# Altium schematic symbol library Dabs PCB.SCHLIB: 12 symbols
Pins are listed as number, name and electrical type; pins without a type are passive.

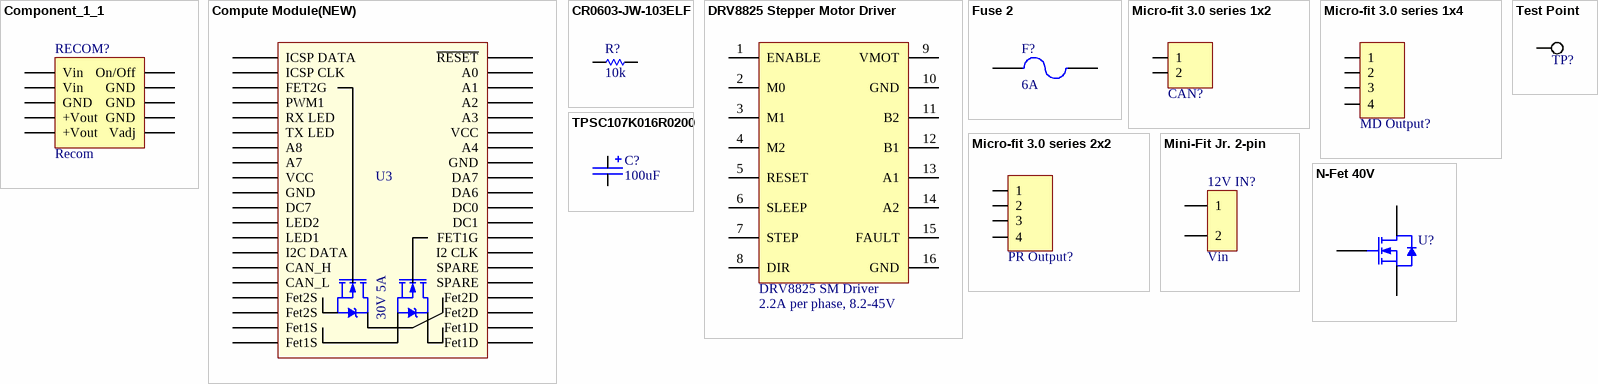
[diagram p0: symbols Component_1_1 to TPSC107K016R0200]

## Component_1_1
designator RECOM?, comment Recom
footprint R-78AAxx-1.0SMD Recom
pins: 1 Vin "ON/OFF", 2 Vin "ON/OFF", 3 GND "ON/OFF", 4 +Vout "ON/OFF", 5 +Vout "ON/OFF", 6 Vadj "ON/OFF", 7 GND "ON/OFF", 8 GND "ON/OFF", 9 GND "ON/OFF", 10 On/Off "ON/OFF"

## Compute Module(NEW)
designator U3  (value not drawn)
PrISUm Standard Compute Module - DIP40(2/24/17); Pinout Revision: 1.0; Doccumentation: TBD; Datasheet: TBD
footprint ComputeModule (Socket for compute module)
pins: 1 ~{RESET}, 2 A0, 3 A1, 4 A2, 5 A3, 6 VCC, 7 A4, 8 GND, 9 DA7, 10 DA6, 11 DC0, 12 DC1, 13 FET1G, 14 I2 CLK, 15 SPARE, 16 SPARE, 17 Fet2D, 18 Fet2D, 19 Fet1D, 20 Fet1D, 21 Fet1S, 22 Fet1S, 23 Fet2S, 24 Fet2S, 25 CAN_L, 26 CAN_H, 27 I2C DATA, 28 LED1, 29 LED2, 30 DC7, 31 GND, 32 VCC, 33 A7, 34 A8, 35 TX LED, 36 RX LED, 37 PWM1, 38 FET2G, 39 ICSP CLK, 40 ICSP DATA
text: 30V 5A

## CR0603-JW-103ELF
designator R?  value 10k  (hidden comment: CR0603-JW-103ELF)
0603 10kOhm resistor; ComponentLink1Description: Datasheet; ComponentLink1URL: http://www.bourns.com/data/global/pdfs/CHPREZTR.pdf
footprint 0603_B (0603 Style B SMT capacitor)
footprint 0603_A (0603 Style A SMT capacitor)
pins: 1, 2

## DRV8825 Stepper Motor Driver
designator U?, comment 2.2A per phase, 8.2-45V
footprint DRV8825 SM Driver
pins: 1 ENABLE "ON/OFF", 2 M0 "ON/OFF", 3 M1 "ON/OFF", 4 M2 "ON/OFF", 5 RESET "ON/OFF", 6 SLEEP "ON/OFF", 7 STEP "ON/OFF", 8 DIR "ON/OFF", 9 VMOT "ON/OFF", 10 GND "ON/OFF", 11 B2 "ON/OFF", 12 B1 "ON/OFF", 13 A1 "ON/OFF", 14 A2 "ON/OFF", 15 FAULT "ON/OFF", 16 GND "ON/OFF"
text: DRV8825 SM Driver

## Fuse 2
designator F?, comment 6A
Fuse; Published: 8-Jun-2000; LatestRevisionDate: 17-Jul-2002; LatestRevisionNote: Re-released for DXP Platform.; PackageReference: PIN-W2/E2.8; Publisher: Altium Limited; PackageDescription: Thru-Hole; 2 Leads
footprint Blade Fuse
pins: 1, 2

## Micro-fit 3.0 series 1x2
designator CAN?, comment Micro-fit 1x2  (value not drawn)
Digikey: http://www.digikey.com/product-detail/en/molex-llc/0430450200/WM1813-ND/252526; Datasheet: http://www.molex.com/pdm_docs/sd/430450200_sd.pdf; Supplier 1: Digi-Key; Supplier Part Number 1: WM1813-ND
footprint MICRO-FIT 3.0 SERIES 1x2 TH
pins: 1, 2

## Micro-fit 3.0 series 1x4
designator MD Output?  (value not drawn)
4-Pin Molex Mini-Fit Jr. Header  through hole; Drawn By: Aaron Mills; Drawing Date: Jan. 2, 2011; Manufacturer: Molex; ComponentLink1URL: http://www.molex.com/datasheets/pdf/en-us/0436500400_PCB_HEADERS.pdf; ComponentLink1Description: Datasheet; ComponentLink2Description: Mechanical Drawing; ComponentLink2URL: http://www.molex.com/pdm_docs/sd/436500400_sd.pdf; Supplier 1: http://www.mouser.com/ProductDetail/Molex/43650-0400/?qs=sGAEpiMZZMtsLRyDR9nM18mJd%252baLxMG93jo8A2aChec%3d
footprint Micro-fit 3.0 SERIES 1x4 thruhole (Right angle)
pins: 1, 2, 3, 4

## Micro-fit 3.0 series 2x2
designator PR Output?, comment 2x2 MicroFit 3.0  (value not drawn)
Datasheet: http://www.molex.com/pdm_docs/sd/430450400_sd.pdf; Digikey: http://www.digikey.com/product-detail/en/molex-llc/0430450400/WM1814-ND/252527; Supplier 1: Digi-Key; Supplier Part Number 1: WM1814-ND
footprint Micro-Fit 3.0 SERIES 2x2 TH
pins: 1, 2, 3, 4

## Mini-Fit Jr. 2-pin
designator 12V IN?, comment Vin
Mini-Fit Jr. 2-pin Right Angle; Manufacturer: Molex Inc; Manufacturer Part Number: 0039300020; Connector Type: Header, Shrouded; Number of Positions: 2; Number of Positions Loaded: All; Row Spacing: 0.165" (4.20mm); Ordering: http://search.digikey.com/scripts/DkSearch/dksus.dll?Detail&name=WM1351-ND; Datasheet: http://www.molex.com/pdm_docs/sd/039301020_sd.pdf; Supplier 1: Digi-Key; RoHS: RoHS Compliant; Category: Connectors, Interconnects; Stock 1: 371; Pricing 1: 1=0.77, 10=0.674, 50=0.6078, 100=0.5815, 250=0.5286, 500=0.47574, 1000=0.42288, 2500=0.38324, 5000=0.37002 (USD); Contact Type: Male Pin; Pitch: -; Number of Rows: 2; Contact Mating Length: -; Mounting Type: Through Hole, Right Angle; Termination: Solder; Fastening Type: Locking Ramp; Features: Board Lock; Contact Finish: Tin; Contact Finish Thickness: 200µin (5.08µm); Color: Natural; Packaging: Tray; ComponentLink1URL: http://www.molex.com/pdm_docs/sd/039300020_sd.pdf; ComponentLink1Description: http://www.molex.com/pdm_docs/sd/039300020_sd.pdf; Supplier Part Number 1: WM21351-ND
footprint Mini-Fit Jr. 2
pins: 1, 2

## N-Fet 40V
designator U?, comment CSD18504KCS  (value not drawn)
footprint CSD18504KCS 40V Nfet
pins: 1 "ON/OFF", 3 "ON/OFF", 4 "ON/OFF"

## Test Point
designator TP?  (value not drawn)
footprint Test Point (Round Pad for Probing)
pins: 1

## TPSC107K016R0200
designator C?  value 100uF  (hidden comment: TPSC107K016R0200)
100uF Tant SMT 6032; ComponentLink1Description: Datasheet; ComponentLink1URL: http://www.avx.com/docs/Catalogs/tps.pdf; ComponentLink2Description: Supplier 1; ComponentLink2URL: http://search.digikey.com/scripts/DkSearch/dksus.dll?Detail&name=478-5262-1-ND
footprint 6032 Polarized (tantalum footprint, positive marked); pin to pad 1>2 2>1
pins: 1, 2